# EAGLE library part OPTO_DARLINGTON_HCPL0701 (library SamacSys_Parts)
Hi-Gain Split Darlington Optocoupler SO8 Source: Datasheet <http://www.onsemi.com/pub/Collateral/HCPL0731-D.pdf>
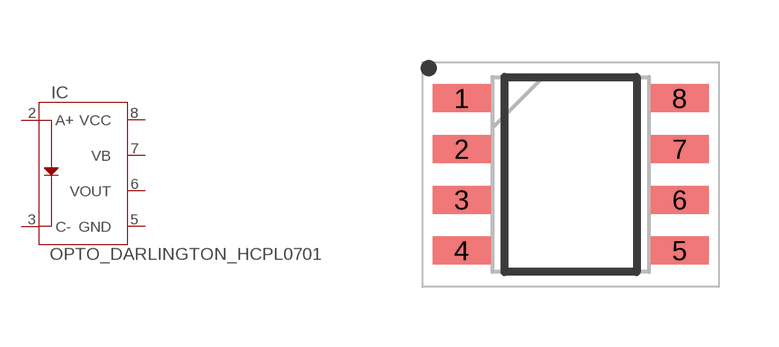
[diagram p1: symbol with the pads of OPTO_DARLINGTON_SOIC127P594X363-8N; footprint OPTO_DARLINGTON_SOIC127P594X363-8N]

Designator prefix IC

## OPTO_DARLINGTON_HCPL0701 (DESCRIPTION: Hi-Gain Split Darlington Optocoupler SO8; HEIGHT: 3.63mm; MANUFACTURER_NAME: ON Semiconductor; MANUFACTURER_PART_NUMBER: HCPL0701; MOUSER_PART_NUMBER: 512-HCPL0701; MOUSER_PRICE-STOCK: https://www.mouser.com/Search/Refine.aspx?Keyword=512-HCPL0701; RS_PART_NUMBER: 9034263P; RS_PRICE-STOCK: http://uk.rs-online.com/web/p/products/9034263P)  [OPTO_DARLINGTON_SOIC127P594X363-8N]
2  A+
3  C-
5  GND
6  VOUT
7  VB
8  VCC

## Footprint OPTO_DARLINGTON_SOIC127P594X363-8N (pad centres in mm)
SOIC8 CASE 751DZ ISSUE O
smd 1.45 x 0.7: 1 -2.725,1.905; 2 -2.725,0.635; 3 -2.725,-0.635; 4 -2.725,-1.905; 5 2.725,-1.905; 6 2.725,-0.635; 7 2.725,0.635; 8 2.725,1.905